# EAGLE library part MAX4476-OPAMP (library gele.maximopamps_44xx)
MAX4476 Low-Noise, Low-Distortion, Wide-Band, Rail-to-Rail Op Amp These amplifier has rail-to-rail output. It's input common-mode voltage range includes ground. The MAX4476 is unity-gain stable with a gain-bandwidth product of 10MHz. Features: ♦ Low Input Voltage-Noise Density: 4.5nV/√Hz ♦ Low Input Current-Noise Density: 0.5fA/√Hz ♦ Low Distortion: 0.0002% THD+N (1kΩ load) ♦ Single-Supply Operation from +2.7V to +5.5V source used: http://www.farnell.com/datasheets/28851.pdf
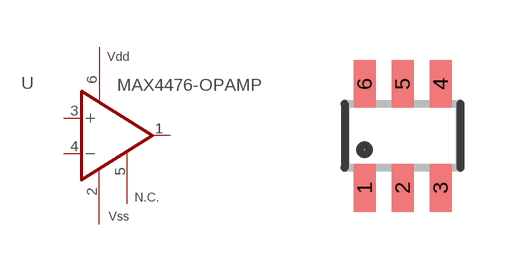
[diagram p1: symbol with the pads of SOT23-6; footprint SOT23-6]

Designator prefix -

## MAX4476-OPAMP  [SOT23-6]
1  OUT  out
2  VSS  pwr
3  +IN  in
4  -IN  in
5  NC  hiz
6  VDD  pwr

## Footprint SOT23-6 (pad centres in mm)
Small Outline Transistor - 6 Pin
smd 0.55 x 1.2: 1 -0.95,-1.3; 2 0,-1.3; 3 0.95,-1.3; 4 0.95,1.3; 5 0,1.3; 6 -0.95,1.3